# Altium footprint library Pcbkılıf.PcbLib: 1 footprints
Each footprint in its own frame and in the unit in brackets; x right, y up, seen from the top. Pads: shape width x height; smd on the part's side, far side on the other; paste and mask are expansions set on the pad; w line width, h text height; cw(c..) or ccw(c..) is an arc to the next point about the centre after c.
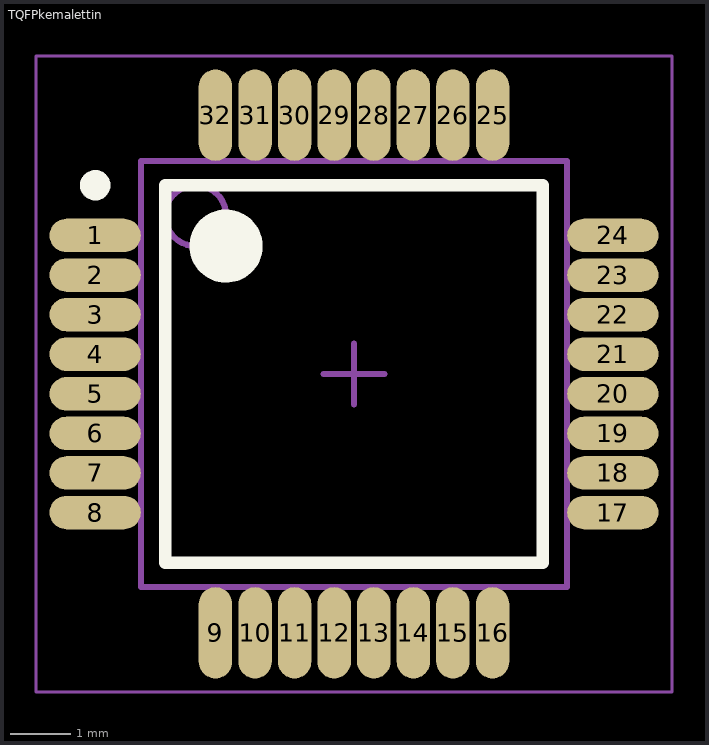
[diagram p0: the footprint, top view; thin cyan lines are the x and y axes]

## TQFPkemalettin [mm] "TQFP, 32-Leads, Body 7,00x7,00mm, Pitch 0,65mm, IPC Medium Density"
height 1.2
pads (32):
  oval 1.5x0.55 smd: 1(-1278.5,-1263.475) 2(-1278.5,-1264.125) 3(-1278.5,-1264.775) 4(-1278.5,-1265.425) 5(-1278.5,-1266.075) 6(-1278.5,-1266.725) 7(-1278.5,-1267.375) 8(-1278.5,-1268.025) 17(-1270,-1268.025) 18(-1270,-1267.375) 19(-1270,-1266.725) 20(-1270,-1266.075) 21(-1270,-1265.425) 22(-1270,-1264.775) 23(-1270,-1264.125) 24(-1270,-1263.475)
  oval 0.55x1.5 smd: 9(-1276.525,-1270) 10(-1275.875,-1270) 11(-1275.225,-1270) 12(-1274.575,-1270) 13(-1273.925,-1270) 14(-1273.275,-1270) 15(-1272.625,-1270) 16(-1271.975,-1270) 25(-1271.975,-1261.5) 26(-1272.625,-1261.5) 27(-1273.275,-1261.5) 28(-1273.925,-1261.5) 29(-1274.575,-1261.5) 30(-1275.225,-1261.5) 31(-1275.875,-1261.5) 32(-1276.525,-1261.5)
Top Overlay:
  circle w0.25: c-1278.5,-1262.65 r0.125
  circle w0.6: c-1276.35,-1263.65 r0.3
  lines w0.2: -1277.35,-1268.85 -1277.35,-1262.65 -1271.15,-1262.65 -1271.15,-1268.85 -1277.35,-1268.85
Mechanical 15:
  circle w0.1: c-1276.85,-1263.15 r0.5
  lines w0.05: -1279.475,-1270.975 -1279.475,-1260.525 -1269.025,-1260.525 -1269.025,-1270.975 -1279.475,-1270.975
  lines w0.1: -1274.75,-1265.75 -1273.75,-1265.75 ; -1274.25,-1266.25 -1274.25,-1265.25 ; -1277.75,-1269.25 -1277.75,-1262.25 -1270.75,-1262.25 -1270.75,-1269.25 -1277.75,-1269.25
3D body "TQFPkemalettin.step": height 1.2, standoff 0, extent -1278.75,-1270.25 -1269.75,-1261.25